# Altium footprint library 3296W-1-250.PcbLib: 1 footprints
Each footprint in its own frame and in the unit in brackets; x right, y up, seen from the top. Pads: shape width x height; smd on the part's side, far side on the other; paste and mask are expansions set on the pad; w line width, h text height; cw(c..) or ccw(c..) is an arc to the next point about the centre after c.
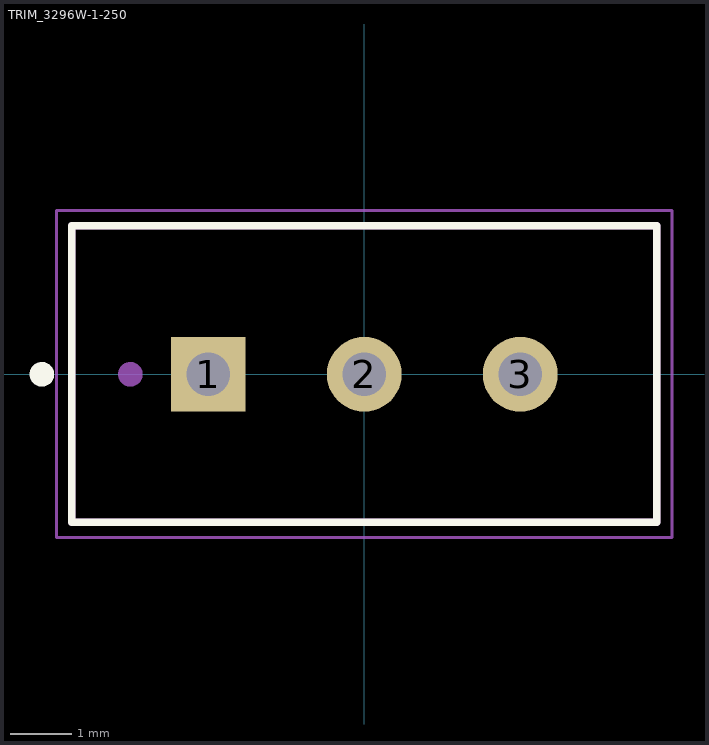
[diagram p0: the footprint, top view; thin cyan lines are the x and y axes]

## TRIM_3296W-1-250 [mm]
pads (3):
  rect 1.218x1.218 hole 0.71: 1(-2.54,0)
  round 1.218 hole 0.71: 2(0,0) 3(2.54,0)
Top Overlay:
  circle w0.2: c-5.25,0 r0.1
  lines w0.127: -4.765,-2.41 4.765,-2.41 4.765,2.42 -4.765,2.42 -4.765,-2.41
Mechanical 13:
  circle w0.2: c-3.81,0 r0.1
  lines w0.127: -4.765,-2.41 -4.765,2.42 4.765,2.42 4.765,-2.41 -4.765,-2.41
Mechanical 15:
  lines w0.05: -5.015,-2.66 -5.015,2.67 5.015,2.67 5.015,-2.66 -5.015,-2.66
3D body "step_temp.STEP": height 11.55, standoff -7.72, extent -4.765,-2.42 4.765,2.41